# Altium footprint library SamacSys.PcbLib: 35 footprints (part 3 of 3)
Each footprint in its own frame and in the unit in brackets; x right, y up, seen from the top. Pads: shape width x height; smd on the part's side, far side on the other; paste and mask are expansions set on the pad; w line width, h text height; cw(c..) or ccw(c..) is an arc to the next point about the centre after c.
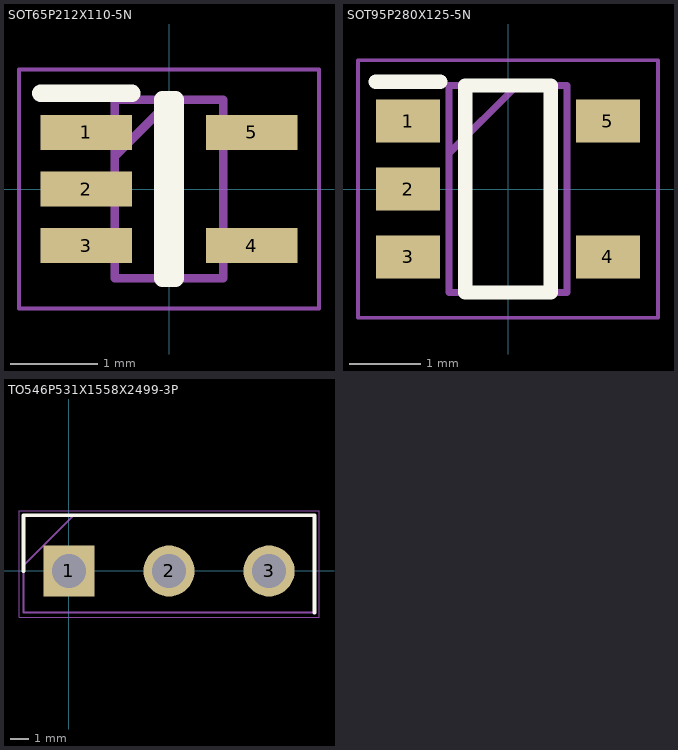
[diagram p2: the footprints below, top view; thin cyan lines are the x and y axes]

## SOT65P212X110-5N [mm]
pads (5):
  rect 1.05x0.4 smd: 1(-0.95,0.65) 2(-0.95,0) 3(-0.95,-0.65) 4(0.95,-0.65) 5(0.95,0.65)
Top Overlay:
  lines w0.2: -1.475,1.1 -0.425,1.1 ; -0.075,-1.025 0.075,-1.025 0.075,1.025 -0.075,1.025 -0.075,-1.025
Mechanical 13:
  lines w0.1: -0.625,0.375 0.025,1.025 ; -0.625,-1.025 0.625,-1.025 0.625,1.025 -0.625,1.025 -0.625,-1.025
Mechanical 15:
  lines w0.05: -1.725,-1.375 1.725,-1.375 1.725,1.375 -1.725,1.375 -1.725,-1.375
3D body "74HC1G08GW,125.stp": height 0.95, standoff 0, extent -1.048,-1.049 1.052,1.101

## SOT95P280X125-5N [mm]
pads (5):
  rect 0.9x0.6 smd: 1(-1.4,0.95) 2(-1.4,0) 3(-1.4,-0.95) 4(1.4,-0.95) 5(1.4,0.95)
Top Overlay:
  lines w0.2: -1.85,1.5 -0.95,1.5 ; -0.6,-1.45 0.6,-1.45 0.6,1.45 -0.6,1.45 -0.6,-1.45
Mechanical 13:
  lines w0.1: -0.825,0.5 0.125,1.45 ; -0.825,-1.45 0.825,-1.45 0.825,1.45 -0.825,1.45 -0.825,-1.45
Mechanical 15:
  lines w0.05: -2.1,-1.8 2.1,-1.8 2.1,1.8 -2.1,1.8 -2.1,-1.8
3D body "BU4SU69G2-TR.stp": height 1.25, standoff 0, extent -1.4,-1.45 1.4,1.45

## TO546P531X1558X2499-3P [mm]
pads (3):
  rect 2.79x2.79 hole 1.86: 1(0,0)
  round 2.79 hole 1.86: 2(5.46,0) 3(10.92,0)
Top Overlay:
  lines w0.2: -2.475,0 -2.475,3.035 13.395,3.035 13.395,-2.275
Mechanical 13:
  lines w0.1: -2.475,0.305 0.255,3.035 ; -2.475,-2.275 13.395,-2.275 13.395,3.035 -2.475,3.035 -2.475,-2.275
Mechanical 15:
  lines w0.05: -2.725,-2.525 13.645,-2.525 13.645,3.285 -2.725,3.285 -2.725,-2.525
3D body "IRFP4468PBF.stp": height 24.2, standoff -40.41, extent -2.33,-2.275 13.25,3.035